# Altium footprint library PCB - POWER INDUCTORS - WURTH WE-GFH 3225.PcbLib: 1 footprints
Each footprint in its own frame and in the unit in brackets; x right, y up, seen from the top. Pads: shape width x height; smd on the part's side, far side on the other; paste and mask are expansions set on the pad; w line width, h text height; cw(c..) or ccw(c..) is an arc to the next point about the centre after c.
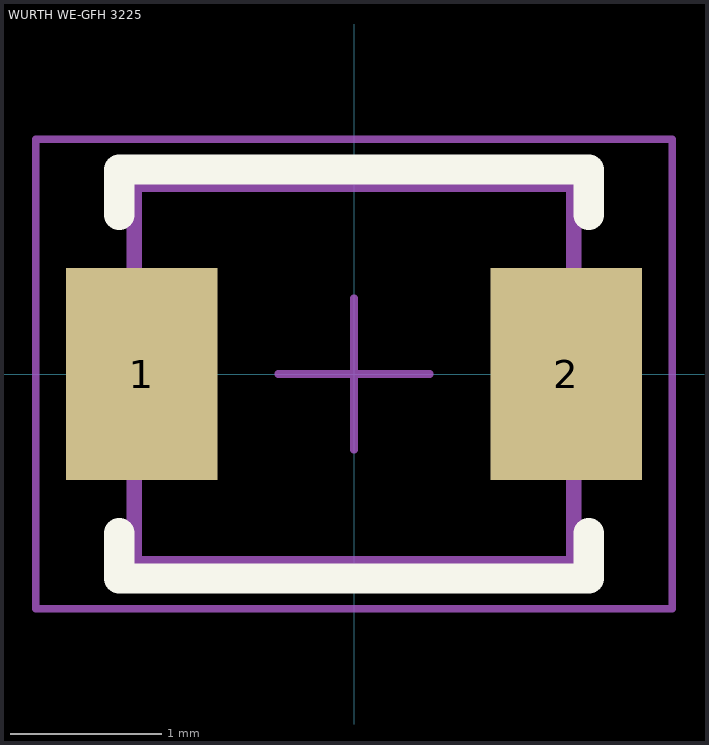
[diagram p0: the footprint, top view; thin cyan lines are the x and y axes]

## WURTH WE-GFH 3225 [mm] "SMT High Frequency Inductor, body 3.4x2.5mm"
height 2.4
pads (2):
  rect 1x1.4 smd: 1(-1.4,0) 2(1.4,0)
Top Overlay:
  lines w0.2: -1.55,-1.05 -1.55,-1.35 1.55,-1.35 1.55,-1.05 ; -1.55,1.05 -1.55,1.35 1.55,1.35 1.55,1.05
Top Assembly:
  lines w0.05: -0.5,0 0.5,0 ; 0,-0.5 0,0.5
  lines w0.1: -1.45,-1.25 1.45,-1.25 1.45,1.25 -1.45,1.25 -1.45,-1.25
Top Component Outline:
  lines w0.1: -1.45,-1.25 -1.45,1.25 1.45,1.25 1.45,-1.25 -1.45,-1.25
Top Courtyard:
  lines w0.05: -2.1,-1.55 2.1,-1.55 2.1,1.55 -2.1,1.55 -2.1,-1.55
3D body "IndGFH_3225.stp": height 2.19, standoff -0.01, extent -1.68,-1.25 1.68,1.25